# EAGLE library part AD1S1200 (library ad2s1200)
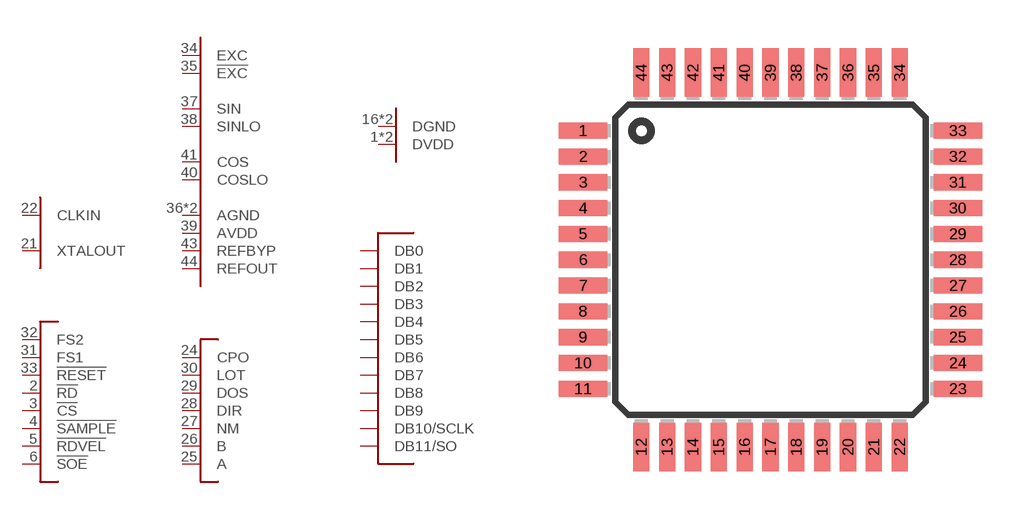
[diagram p0: symbol with the pads of TQFP-44; footprint TQFP-44]

Designator prefix -; gates G$1=AD2S_CLOCK G$2=AD2S_CNTR G$3=AD2S_OUT G$4=AD2S_PARALLEL G$5=ADS_ANALOG G$6=ADS_DPWR

## AD1S1200  [TQFP-44]
1  G$6:DVDD
2  G$2:!RD
3  G$2:!CS
4  G$2:!SAMPLE
5  G$2:!RDVEL
6  G$2:!SOE
7  G$4:DB11/SO
8  G$4:DB10/SCLK
9  G$4:DB9
10  G$4:DB8
11  G$4:DB7
12  G$4:DB6
13  G$4:DB5
14  G$4:DB4
15  G$4:DB3
16  G$6:DGND
17  G$6:DVDD
18  G$4:DB2
19  G$4:DB1
20  G$4:DB0
21  G$1:XTALOUT
22  G$1:CLKIN
23  G$6:DGND
24  G$3:CPO
25  G$3:A
26  G$3:B
27  G$3:NM
28  G$3:DIR
29  G$3:DOS
30  G$3:LOT
31  G$2:FS1
32  G$2:FS2
33  G$2:!RESET
34  G$5:EXC
35  G$5:!EXC
36  G$5:AGND
37  G$5:SIN
38  G$5:SINLO
39  G$5:AVDD
40  G$5:COSLO
41  G$5:COS
42  G$5:AGND
43  G$5:REFBYP
44  G$5:REFOUT

## Footprint TQFP-44 (pad centres in mm)
smd 1.5 x 0.5: 1 -5.8,4; 2 -5.8,3.2; 3 -5.8,2.4; 4 -5.8,1.6; 5 -5.8,0.8; 6 -5.8,0; 7 -5.8,-0.8; 8 -5.8,-1.6; 9 -5.8,-2.4; 10 -5.8,-3.2; 11 -5.8,-4; 23 5.8,-4; 24 5.8,-3.2; 25 5.8,-2.4; 26 5.8,-1.6; 27 5.8,-0.8; 28 5.8,0; 29 5.8,0.8; 30 5.8,1.6; 31 5.8,2.4; 32 5.8,3.2; 33 5.8,4
smd 0.5 x 1.5: 12 -4,-5.8; 13 -3.2,-5.8; 14 -2.4,-5.8; 15 -1.6,-5.8; 16 -0.8,-5.8; 17 0,-5.8; 18 0.8,-5.8; 19 1.6,-5.8; 20 2.4,-5.8; 21 3.2,-5.8; 22 4,-5.8; 34 4,5.8; 35 3.2,5.8; 36 2.4,5.8; 37 1.6,5.8; 38 0.8,5.8; 39 0,5.8; 40 -0.8,5.8; 41 -1.6,5.8; 42 -2.4,5.8; 43 -3.2,5.8; 44 -4,5.8